# Altium schematic symbol library Latrobe.SCHLIB: 30 symbols
Pins are listed as number, name and electrical type; pins without a type are passive.

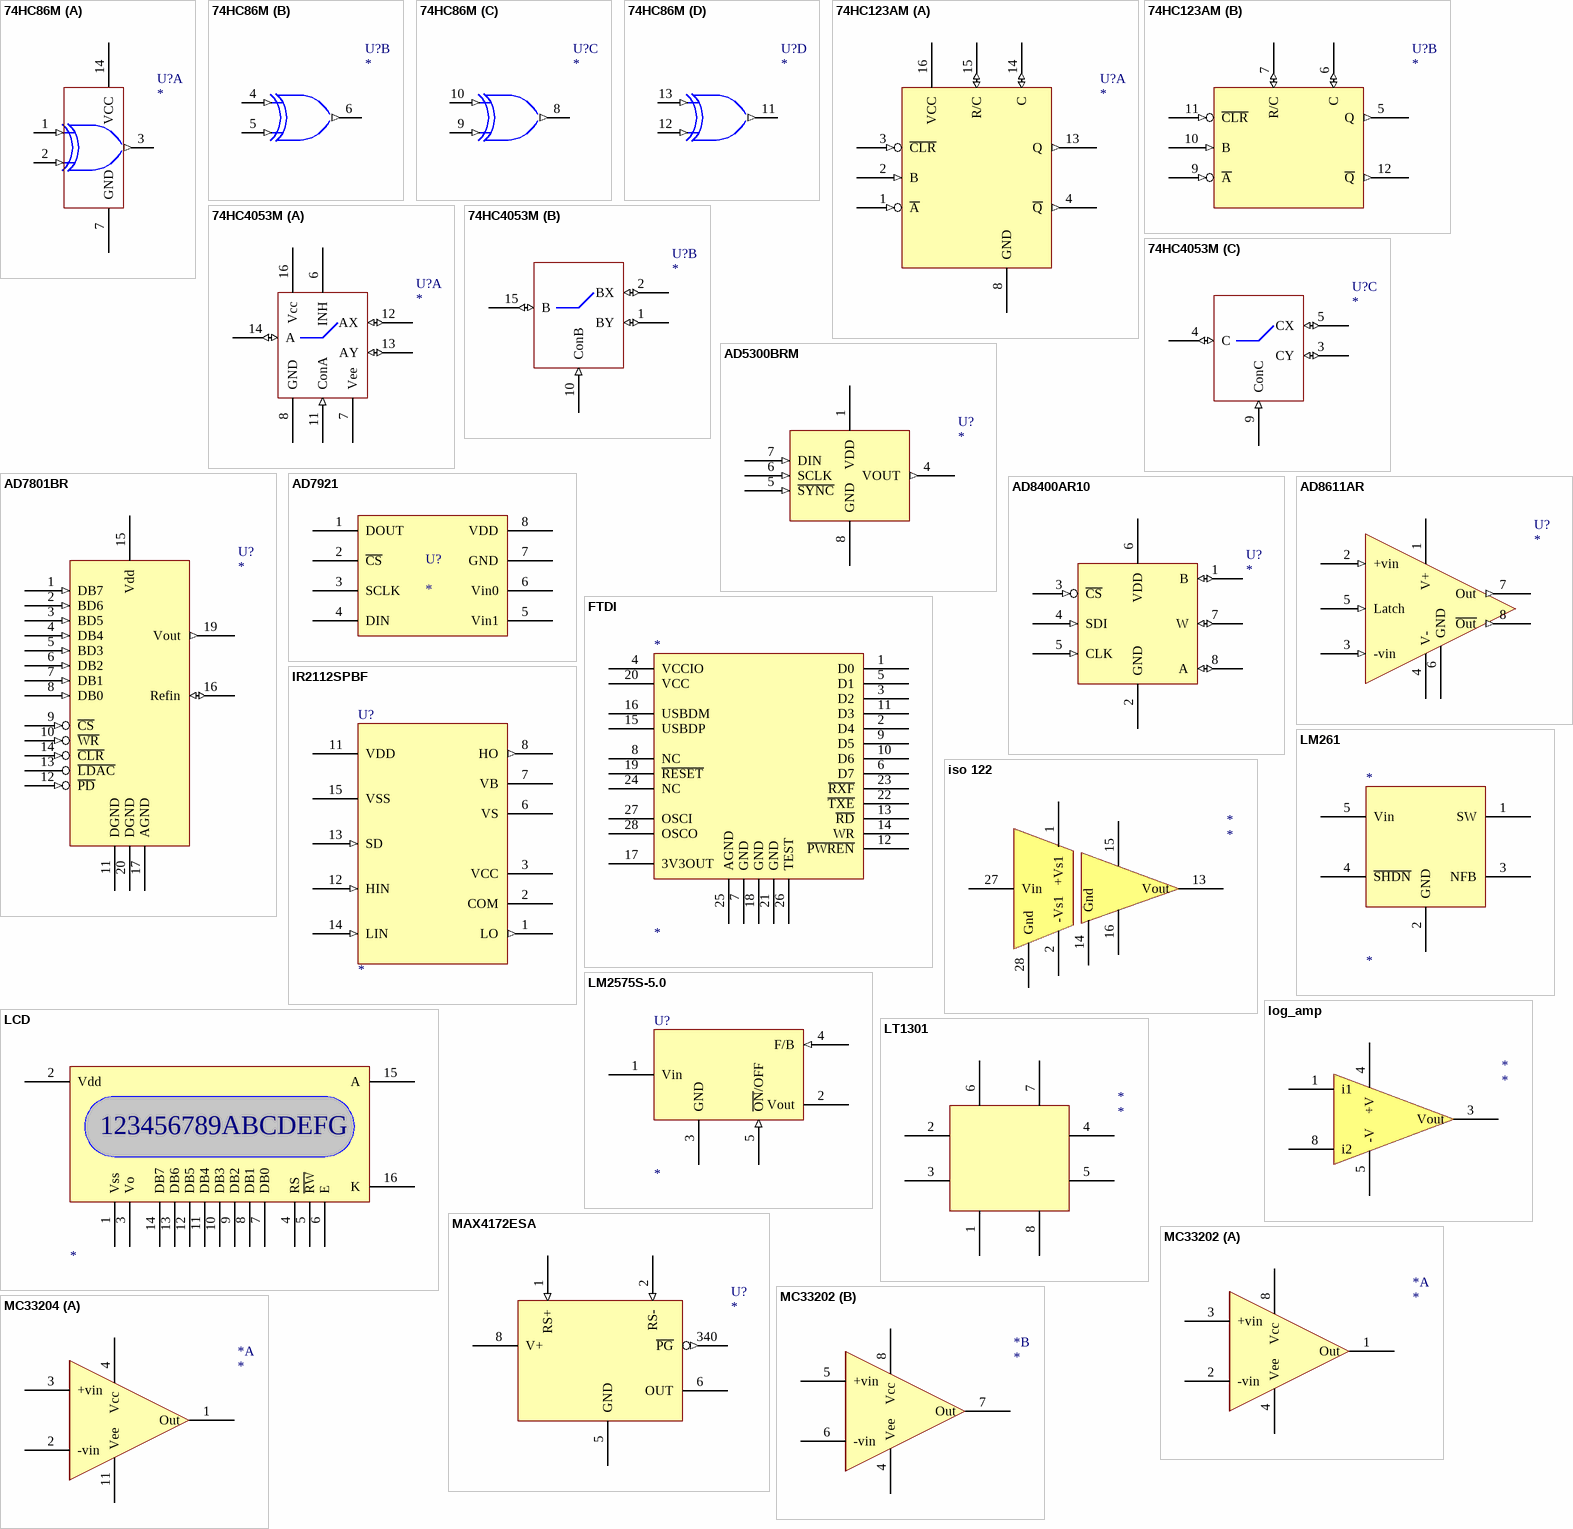
[diagram p0: symbols 74HC86M to MC33204]

## 74HC86M
designator U?
footprint SOIC-14
part A pins: 1 A1 (in), 2 B1 (in), 3 Y1 (out), 7 GND (power), 14 VCC (power)
part B pins: 4 A2 (in), 5 B2 (in), 6 Y2 (out)
part C pins: 8 Y3 (out), 9 B3 (in), 10 A3 (in)
part D pins: 11 Y4 (out), 12 B4 (in), 13 A4 (in)

## 74HC123AM
designator U?
footprint SOIC-16
part A pins: 1 ~{A} (in), 2 B (in), 3 ~{CLR} (in), 4 ~{Q} (out), 8 GND (power), 13 Q (out), 14 C (io), 15 R/C (io), 16 VCC (power)
part B pins: 5 Q (out), 6 C (io), 7 R/C (io), 9 ~{A} (in), 10 B (in), 11 ~{CLR} (in), 12 ~{Q} (out)

## 74HC4053M
designator U?
footprint SO-16
part A pins: 6 INH, 7 Vee (power), 8 GND, 11 ConA (in), 12 AX (io), 13 AY (io), 14 A (io), 16 Vcc
part B pins: 1 BY (io), 2 BX (io), 10 ConB (in), 15 B (io)
part C pins: 3 CY (io), 4 C (io), 5 CX (io), 9 ConC (in)

## AD5300BRM
designator U?
footprint SOIC-8
pins: 1 VDD (power), 2 NC hidden to NC, 3 NC hidden to NC, 4 VOUT (out), 5 ~{SYNC} (in), 6 SCLK (in), 7 DIN (in), 8 GND (power)

## AD7801BR
designator U?
footprint SO-20
pins: 1 DB7 (in), 2 BD6 (in), 3 BD5 (in), 4 DB4 (in), 5 BD3 (in), 6 DB2 (in), 7 DB1 (in), 8 DB0 (in), 9 ~{CS} (in), 10 ~{WR} (in), 11 DGND (power), 12 ~{PD} (in), 13 ~{LDAC}, 14 ~{CLR} (in), 15 Vdd (power), 16 Refin (io), 17 AGND (power), 18 NC hidden to NC, 19 Vout (out), 20 DGND (power)

## AD7921
designator U?
2 Channel 250kSPS, 12Bit ADC
footprint MSOP8 (Shrink Small Outline, MSOP; 8 Leads; Body Width 3 mm; Pitch 0.65 mm)
pins: 1 DOUT, 2 ~{CS}, 3 SCLK, 4 DIN, 5 Vin1, 6 Vin0, 7 GND, 8 VDD

## AD8400AR10
designator U?
footprint SO-8
pins: 1 B (io), 2 GND (power), 3 ~{CS} (in), 4 SDI (in), 5 CLK (in), 6 VDD (power), 7 W (io), 8 A (io)

## AD8611AR
designator U?
footprint SO-8
pins: 1 V+ (power), 2 +vin (in), 3 -vin (in), 4 V- (power), 5 Latch (in), 6 GND (power), 7 Out (out), 8 ~{Out} (out)

## FTDI
designator *
footprint SSOP28
pins: 1 D0, 2 D4, 3 D2, 4 VCCIO, 5 D1, 6 D7, 7 GND, 8 NC, 9 D5, 10 D6, 11 D3, 12 ~{PWREN}, 13 ~{RD}, 14 WR, 15 USBDP, 16 USBDM, 17 3V3OUT, 18 GND, 19 ~{RESET}, 20 VCC, 21 GND, 22 ~{TXE}, 23 ~{RXF}, 24 NC, 25 AGND, 26 TEST, 27 OSCI, 28 OSCO

## IR2112SPBF
designator U?
footprint SOIC-16
pins: 1 LO (out), 2 COM (power), 3 VCC (power), 4 NC hidden to NC, 5 NC hidden to NC, 6 VS (power), 7 VB (power), 8 HO (out), 9 NC hidden to NC, 10 NC hidden to NC, 11 VDD (power), 12 HIN (in), 13 SD (in), 14 LIN (in), 15 VSS (power), 16 NC hidden to NC

## iso 122
designator *
footprint SOIC28 (Small Outline; 28 Leads; Body Width 7.5 mm; Pitch 1.27 mm)
pins: 1 +Vs1, 2 -Vs1, 13 Vout, 14 Gnd, 15 +Vs2, 16 -Vs2, 27 Vin, 28 Gnd

## LCD
designator ?
footprint LCD_PADS
pins: 1 Vss, 2 Vdd, 3 Vo, 4 RS, 5 ~{RW}, 6 E, 7 DB0, 8 DB1, 9 DB2, 10 DB3, 11 DB4, 12 DB5, 13 DB6, 14 DB7, 15 A, 16 K
text: 123456789ABCDEFG

## LM261
designator *
footprint SOT-23A-5
pins: 1 SW, 2 GND, 3 NFB, 4 ~{SHDN}, 5 Vin

## LM2575S-5.0
designator U?
footprint TO-263
pins: 1 Vin (power), 2 Vout (power), 3 GND (power), 4 F/B (in), 5 ~{ON}/OFF (in)

## log_amp
designator *
footprint SO8
pins: 1 i1, 3 Vout, 4 +V, 5 -V, 8 i2

## LT1301
designator *
footprint SOIC8
pins: 1, 2, 3, 4, 5, 6, 7, 8

## MAX4172ESA
designator U?
footprint SO-8
pins: 1 RS+ (in), 2 RS- (in), 3 NC hidden to NC, 4 NC hidden to NC, 5 GND, 6 OUT, 8 V+ (power), 340 ~{PG} (out)

## MC33202
designator *
footprint SOIC8
part A pins: 1 Out, 2 -vin, 3 +vin, 4 Vee, 8 Vcc
part B pins: 4 Vee, 5 +vin, 6 -vin, 7 Out, 8 Vcc

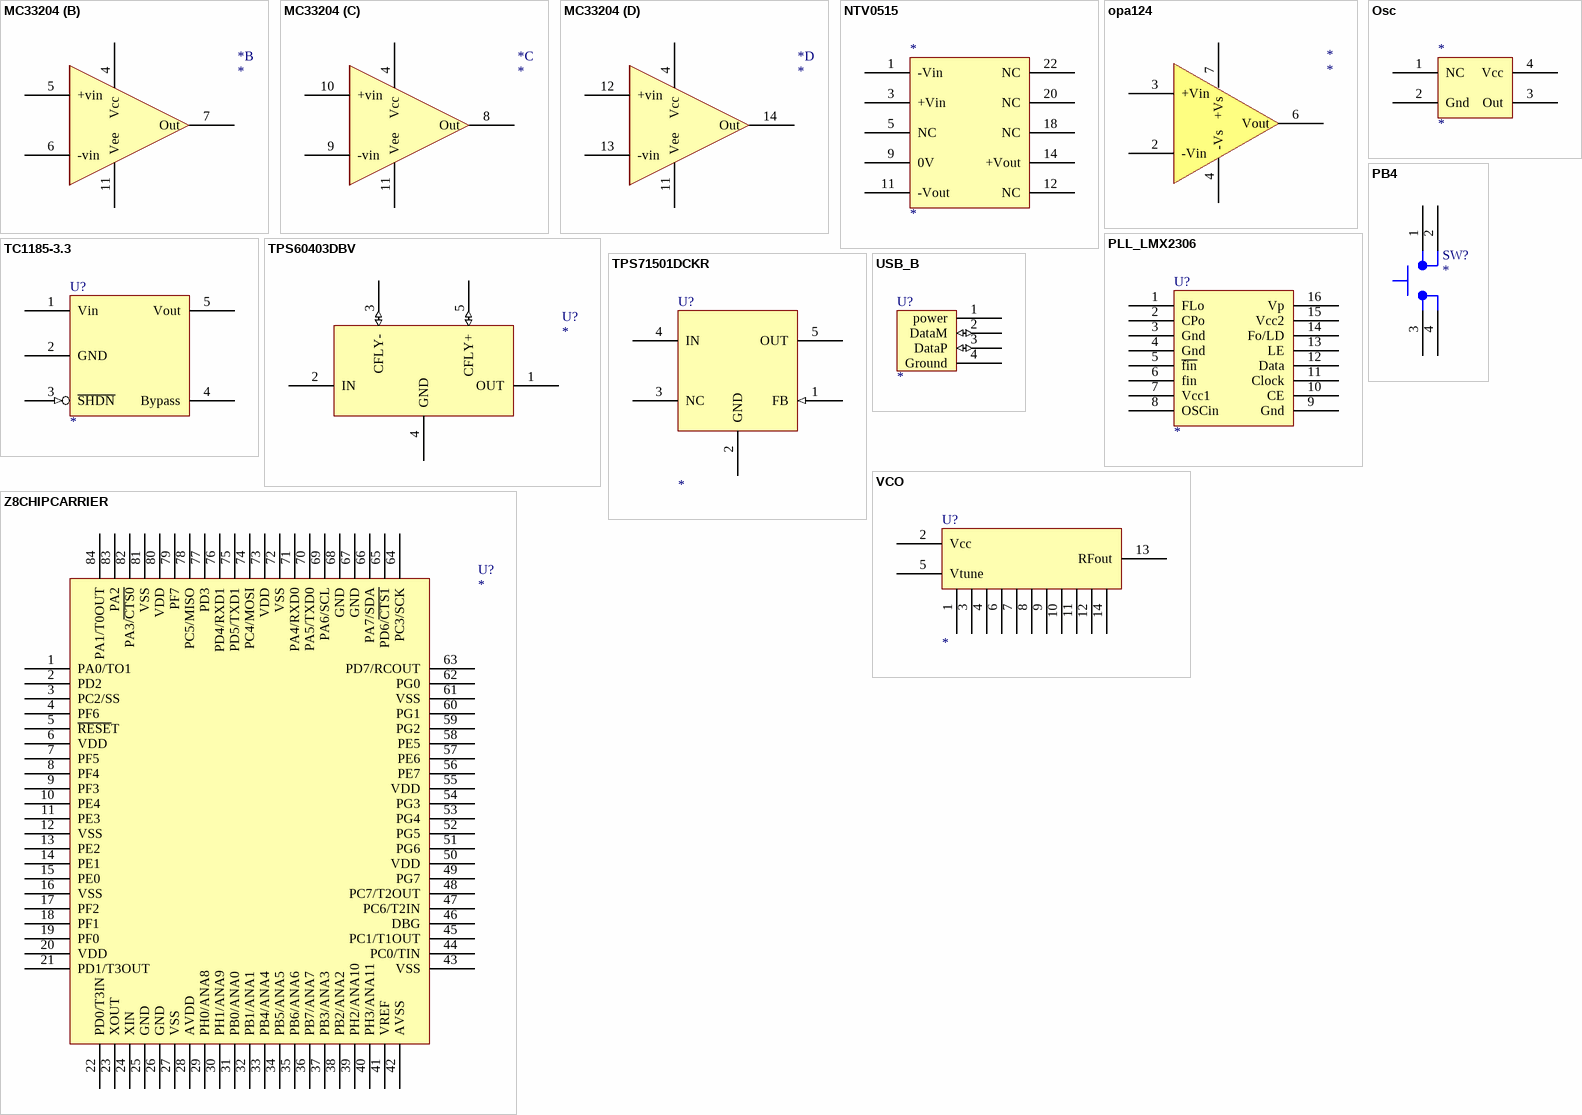
[diagram p1: symbols MC33204 to Z8CHIPCARRIER]

## MC33204
designator *
footprint SOIC14
part A pins: 1 Out, 2 -vin, 3 +vin, 4 Vcc, 11 Vee
part B pins: 4 Vcc, 5 +vin, 6 -vin, 7 Out, 11 Vee
part C pins: 4 Vcc, 8 Out, 9 -vin, 10 +vin, 11 Vee
part D pins: 4 Vcc, 11 Vee, 12 +vin, 13 -vin, 14 Out

## NTV0515
designator *
footprint NTV0515
pins: 1 -Vin, 3 +Vin, 5 NC, 9 0V, 11 -Vout, 12 NC, 14 +Vout, 18 NC, 20 NC, 22 NC

## opa124
designator *
footprint SOIC8
pins: 2 -Vin, 3 +Vin, 4 -Vs, 6 Vout, 7 +Vs

## Osc
designator *
footprint Osc (7.0 x 5.0mm SMD Ceramic Package)
pins: 1 NC, 2 Gnd, 3 Out, 4 Vcc

## PB4
designator SW?
footprint PB2x2
pins: 1, 2, 3, 4

## PLL_LMX2306
designator U?
footprint TSSOP16
pins: 1 FLo, 2 CPo, 3 Gnd, 4 Gnd, 5 ~{fin}, 6 fin, 7 Vcc1, 8 OSCin, 9 Gnd, 10 CE, 11 Clock, 12 Data, 13 LE, 14 Fo/LD, 15 Vcc2, 16 Vp

## TC1185-3.3
designator U?
footprint SOT-23A-5
pins: 1 Vin (power), 2 GND (power), 3 ~{SHDN} (in), 4 Bypass (power), 5 Vout (power)

## TPS60403DBV
designator U?
footprint SOT-23A-5
pins: 1 OUT (power), 2 IN (power), 3 CFLY- (io), 4 GND (power), 5 CFLY+ (io)

## TPS71501DCKR
designator U?
footprint SOT-23A-5
pins: 1 FB (in), 2 GND (power), 3 NC, 4 IN (power), 5 OUT (power)

## USB_B
designator U?
footprint USB_B
pins: 1 power, 2 DataM (io), 3 DataP (io), 4 Ground

## VCO
designator U?
footprint BK377 (Minicircuits VCO)
pins: 1 GND, 2 Vcc, 3, 4, 5 Vtune, 6, 7, 8, 9, 10, 11, 12, 13 RFout, 14

## Z8CHIPCARRIER
designator U?
footprint Z8_PADS
pins: 1 PA0/TO1, 2 PD2, 3 PC2/SS, 4 PF6, 5 ~{RESE}T, 6 VDD, 7 PF5, 8 PF4, 9 PF3, 10 PE4, 11 PE3, 12 VSS, 13 PE2, 14 PE1, 15 PE0, 16 VSS, 17 PF2, 18 PF1, 19 PF0, 20 VDD, 21 PD1/T3OUT, 22 PD0/T3IN, 23 XOUT, 24 XIN, 25 GND, 26 GND, 27 VSS, 28 AVDD, 29 PH0/ANA8, 30 PH1/ANA9, 31 PB0/ANA0, 32 PB1/ANA1, 33 PB4/ANA4, 34 PB5/ANA5, 35 PB6/ANA6, 36 PB7/ANA7, 37 PB3/ANA3, 38 PB2/ANA2, 39 PH2/ANA10, 40 PH3/ANA11, 41 VREF, 42 AVSS, 43 VSS, 44 PC0/TIN, 45 PC1/T1OUT, 46 DBG, 47 PC6/T2IN, 48 PC7/T2OUT, 49 PG7, 50 VDD, 51 PG6, 52 PG5, 53 PG4, 54 PG3, 55 VDD, 56 PE7, 57 PE6, 58 PE5, 59 PG2, 60 PG1, 61 VSS, 62 PG0, 63 PD7/RCOUT, 64 PC3/SCK, 65 PD6/~{CTS1}, 66 PA7/SDA, 67 GND, 68 GND, 69 PA6/SCL, 70 PA5/TXD0, 71 PA4/RXD0, 72 VSS, 73 VDD, 74 PC4/MOSI, 75 PD5/TXD1, 76 PD4/RXD1, 77 PD3, 78 PC5/MISO, 79 PF7, 80 VDD, 81 VSS, 82 PA3/~{CTS0}, 83 PA2, 84 PA1/T0OUT